# EAGLE library part MOD_CM4_SC0682 (library !GPLIB_ACTIVE)
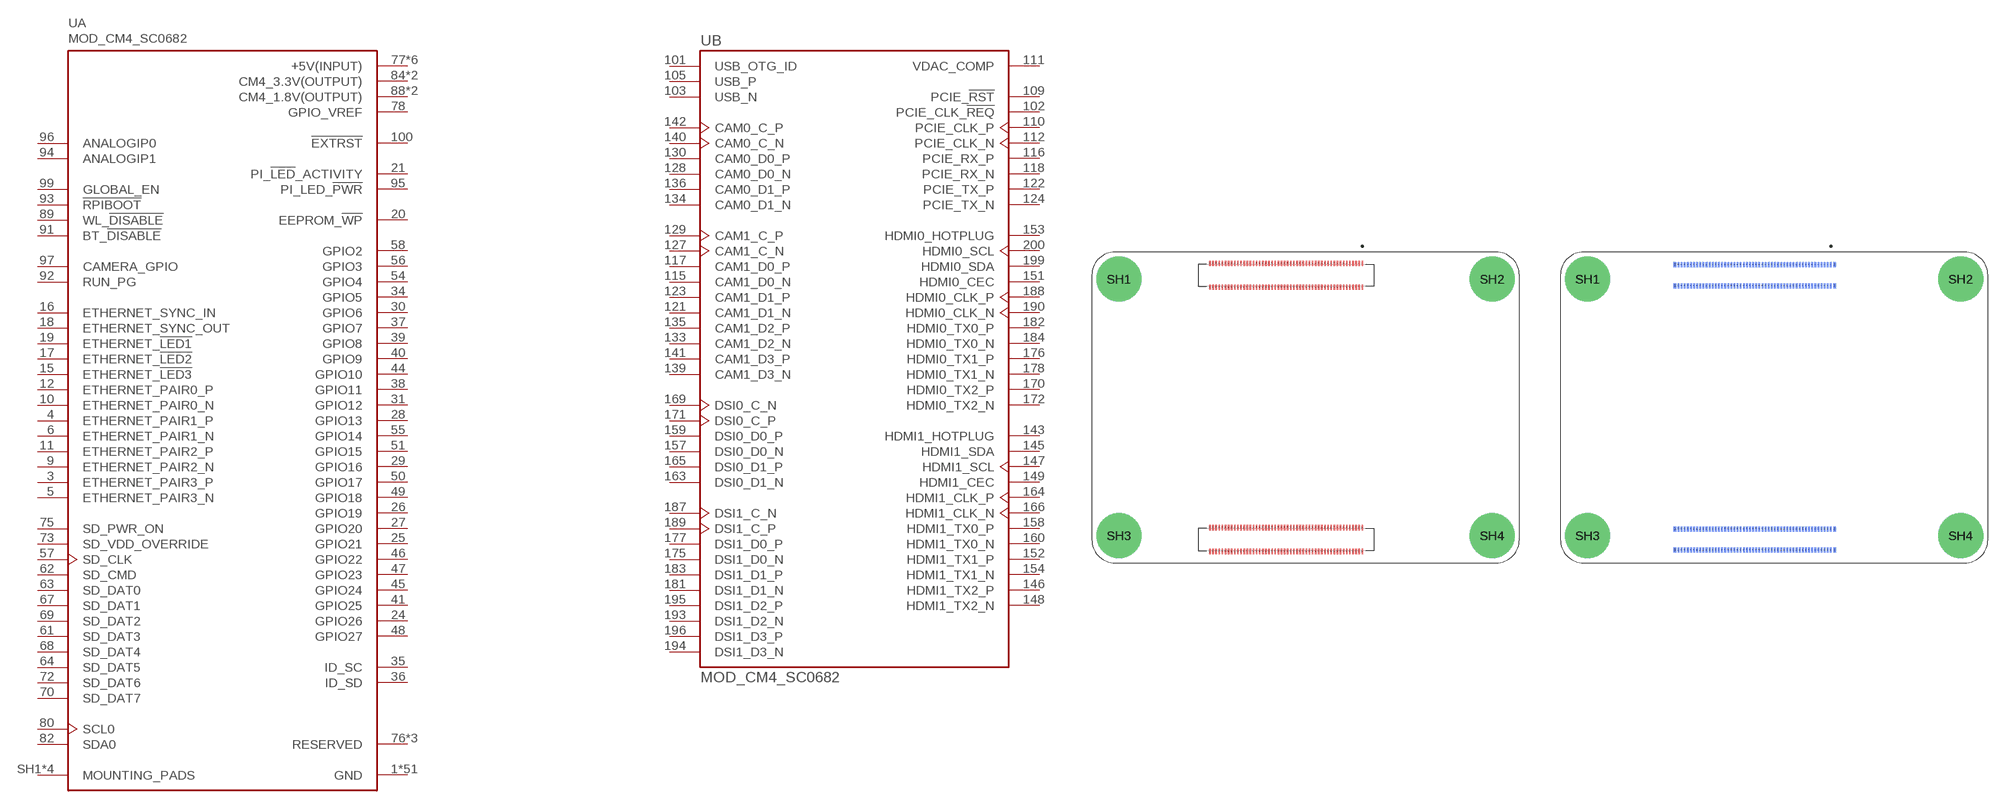
[diagram p47: symbol with the pads of MODULE_SC0682; footprints MODULE_SC0682, MODULE_CM4]

Designator prefix U; gates A=SC0682_CON1 B=SC0682_CON2

## MOD_CM4_SC0682  [MODULE_SC0682]
1  A:GND  pwr
2  A:GND  pwr
3  A:ETHERNET_PAIR3_P
4  A:ETHERNET_PAIR1_P
5  A:ETHERNET_PAIR3_N
6  A:ETHERNET_PAIR1_N
7  A:GND  pwr
8  A:GND  pwr
9  A:ETHERNET_PAIR2_N
10  A:ETHERNET_PAIR0_N
11  A:ETHERNET_PAIR2_P
12  A:ETHERNET_PAIR0_P
13  A:GND  pwr
14  A:GND  pwr
15  A:ETHERNET_!LED3  out
16  A:ETHERNET_SYNC_IN  in
17  A:ETHERNET_!LED2  out
18  A:ETHERNET_SYNC_OUT  out
19  A:ETHERNET_!LED1  out
20  A:EEPROM_!WP
21  A:PI_!LED!_ACTIVITY
22  A:GND  pwr
23  A:GND  pwr
24  A:GPIO26
25  A:GPIO21
26  A:GPIO19
27  A:GPIO20
28  A:GPIO13
29  A:GPIO16
30  A:GPIO6
31  A:GPIO12
32  A:GND  pwr
33  A:GND  pwr
34  A:GPIO5
35  A:ID_SC
36  A:ID_SD
37  A:GPIO7
38  A:GPIO11
39  A:GPIO8
40  A:GPIO9
41  A:GPIO25
42  A:GND  pwr
43  A:GND  pwr
44  A:GPIO10
45  A:GPIO24
46  A:GPIO22
47  A:GPIO23
48  A:GPIO27
49  A:GPIO18
50  A:GPIO17
51  A:GPIO15
52  A:GND  pwr
53  A:GND  pwr
54  A:GPIO4
55  A:GPIO14
56  A:GPIO3
57  A:SD_CLK
58  A:GPIO2
59  A:GND  pwr
60  A:GND  pwr
61  A:SD_DAT3
62  A:SD_CMD  in
63  A:SD_DAT0
64  A:SD_DAT5
65  A:GND  pwr
66  A:GND  pwr
67  A:SD_DAT1
68  A:SD_DAT4
69  A:SD_DAT2
70  A:SD_DAT7
71  A:GND  pwr
72  A:SD_DAT6
73  A:SD_VDD_OVERRIDE  in
74  A:GND  pwr
75  A:SD_PWR_ON  out
76  A:RESERVED  nc
77  A:+5V(INPUT)  pwr
78  A:GPIO_VREF  pwr
79  A:+5V(INPUT)  pwr
80  A:SCL0  in
81  A:+5V(INPUT)  pwr
82  A:SDA0
83  A:+5V(INPUT)  pwr
84  A:CM4_3.3V(OUTPUT)  pwr
85  A:+5V(INPUT)  pwr
86  A:CM4_3.3V(OUTPUT)  pwr
87  A:+5V(INPUT)  pwr
88  A:CM4_1.8V(OUTPUT)  pwr
89  A:WL_!DISABLE  in
90  A:CM4_1.8V(OUTPUT)  pwr
91  A:BT_!DISABLE  in
92  A:RUN_PG
93  A:!RPIBOOT  in
94  A:ANALOGIP1  in
95  A:PI_LED_!PWR  out
96  A:ANALOGIP0  in
97  A:CAMERA_GPIO
98  A:GND  pwr
99  A:GLOBAL_EN  in
100  A:!EXTRST  out
101  B:USB_OTG_ID  in
102  B:PCIE_CLK_!REQ  in
103  B:USB_N
104  A:RESERVED  nc
105  B:USB_P
106  A:RESERVED  nc
107  A:GND  pwr
108  A:GND  pwr
109  B:PCIE_!RST  out
110  B:PCIE_CLK_P  out
111  B:VDAC_COMP  out
112  B:PCIE_CLK_N  out
113  A:GND  pwr
114  A:GND  pwr
115  B:CAM1_D0_N  in
116  B:PCIE_RX_P  in
117  B:CAM1_D0_P  in
118  B:PCIE_RX_N  in
119  A:GND  pwr
120  A:GND  pwr
121  B:CAM1_D1_N  in
122  B:PCIE_TX_P  out
123  B:CAM1_D1_P  in
124  B:PCIE_TX_N  out
125  A:GND  pwr
126  A:GND  pwr
127  B:CAM1_C_N  in
128  B:CAM0_D0_N  in
129  B:CAM1_C_P  in
130  B:CAM0_D0_P  in
131  A:GND  pwr
132  A:GND  pwr
133  B:CAM1_D2_N  in
134  B:CAM0_D1_N  in
135  B:CAM1_D2_P  in
136  B:CAM0_D1_P  in
137  A:GND  pwr
138  A:GND  pwr
139  B:CAM1_D3_N  in
140  B:CAM0_C_N  in
141  B:CAM1_D3_P  in
142  B:CAM0_C_P  in
143  B:HDMI1_HOTPLUG  in
144  A:GND  pwr
145  B:HDMI1_SDA
146  B:HDMI1_TX2_P  out
147  B:HDMI1_SCL
148  B:HDMI1_TX2_N  out
149  B:HDMI1_CEC  in
150  A:GND  pwr
151  B:HDMI0_CEC  in
152  B:HDMI1_TX1_P  out
153  B:HDMI0_HOTPLUG  in
154  B:HDMI1_TX1_N  out
155  A:GND  pwr
156  A:GND  pwr
157  B:DSI0_D0_N  out
158  B:HDMI1_TX0_P  out
159  B:DSI0_D0_P  out
160  B:HDMI1_TX0_N  out
161  A:GND  pwr
162  A:GND  pwr
163  B:DSI0_D1_N  out
164  B:HDMI1_CLK_P  out
165  B:DSI0_D1_P  out
166  B:HDMI1_CLK_N  out
167  A:GND  pwr
168  A:GND  pwr
169  B:DSI0_C_N  out
170  B:HDMI0_TX2_P  out
171  B:DSI0_C_P  out
172  B:HDMI0_TX2_N  out
173  A:GND  pwr
174  A:GND  pwr
175  B:DSI1_D0_N  out
176  B:HDMI0_TX1_P  out
177  B:DSI1_D0_P  out
178  B:HDMI0_TX1_N  out
179  A:GND  pwr
180  A:GND  pwr
181  B:DSI1_D1_N  out
182  B:HDMI0_TX0_P  out
183  B:DSI1_D1_P  out
184  B:HDMI0_TX0_N  out
185  A:GND  pwr
186  A:GND  pwr
187  B:DSI1_C_N  out
188  B:HDMI0_CLK_P  out
189  B:DSI1_C_P  out
190  B:HDMI0_CLK_N  out
191  A:GND  pwr
192  A:GND  pwr
193  B:DSI1_D2_N  out
194  B:DSI1_D3_N  out
195  B:DSI1_D2_P  out
196  B:DSI1_D3_P  out
197  A:GND  pwr
198  A:GND  pwr
199  B:HDMI0_SDA
200  B:HDMI0_SCL
SH1  A:MOUNTING_PADS  pas
SH2  A:MOUNTING_PADS  pas
SH3  A:MOUNTING_PADS  pas
SH4  A:MOUNTING_PADS  pas

## MOD_CM4_SC0682_MODULE_SIDE  [MODULE_CM4]
Pads as for MODULE_SC0682

## Footprint MODULE_SC0682 (pad centres in mm)
smd 0.2 x 0.7: 1 7.3,18.54; 2 7.3,15.46; 3 6.9,18.54; 4 6.9,15.46; 5 6.5,18.54; 6 6.5,15.46; 7 6.1,18.54; 8 6.1,15.46; 9 5.7,18.54; 10 5.7,15.46; 11 5.3,18.54; 12 5.3,15.46; 13 4.9,18.54; 14 4.9,15.46; 15 4.5,18.54; 16 4.5,15.46; 17 4.1,18.54; 18 4.1,15.46; 19 3.7,18.54; 20 3.7,15.46; 21 3.3,18.54; 22 3.3,15.46; 23 2.9,18.54; 24 2.9,15.46; 25 2.5,18.54; 26 2.5,15.46; 27 2.1,18.54; 28 2.1,15.46; 29 1.7,18.54; 30 1.7,15.46; 31 1.3,18.54; 32 1.3,15.46; 33 0.9,18.54; 34 0.9,15.46; 35 0.5,18.54; 36 0.5,15.46; 37 0.1,18.54; 38 0.1,15.46; 39 -0.3,18.54; 40 -0.3,15.46; 41 -0.7,18.54; 42 -0.7,15.46; 43 -1.1,18.54; 44 -1.1,15.46; 45 -1.5,18.54; 46 -1.5,15.46; 47 -1.9,18.54; 48 -1.9,15.46; 49 -2.3,18.54; 50 -2.3,15.46; 51 -2.7,18.54; 52 -2.7,15.46; 53 -3.1,18.54; 54 -3.1,15.46; 55 -3.5,18.54; 56 -3.5,15.46; 57 -3.9,18.54; 58 -3.9,15.46; 59 -4.3,18.54; 60 -4.3,15.46; 61 -4.7,18.54; 62 -4.7,15.46; 63 -5.1,18.54; 64 -5.1,15.46; 65 -5.5,18.54; 66 -5.5,15.46; 67 -5.9,18.54; 68 -5.9,15.46; 69 -6.3,18.54; 70 -6.3,15.46; 71 -6.7,18.54; 72 -6.7,15.46; 73 -7.1,18.54; 74 -7.1,15.46; 75 -7.5,18.54; 76 -7.5,15.46; 77 -7.9,18.54; 78 -7.9,15.46; 79 -8.3,18.54; 80 -8.3,15.46; 81 -8.7,18.54; 82 -8.7,15.46; 83 -9.1,18.54; 84 -9.1,15.46; 85 -9.5,18.54; 86 -9.5,15.46; 87 -9.9,18.54; 88 -9.9,15.46; 89 -10.3,18.54; 90 -10.3,15.46; 91 -10.7,18.54; 92 -10.7,15.46; 93 -11.1,18.54; 94 -11.1,15.46; 95 -11.5,18.54; 96 -11.5,15.46; 97 -11.9,18.54; 98 -11.9,15.46; 99 -12.3,18.54; 100 -12.3,15.46; 101 7.3,-15.46; 102 7.3,-18.54; 103 6.9,-15.46; 104 6.9,-18.54; 105 6.5,-15.46; 106 6.5,-18.54; 107 6.1,-15.46; 108 6.1,-18.54; 109 5.7,-15.46; 110 5.7,-18.54; 111 5.3,-15.46; 112 5.3,-18.54; 113 4.9,-15.46; 114 4.9,-18.54; 115 4.5,-15.46; 116 4.5,-18.54; 117 4.1,-15.46; 118 4.1,-18.54; 119 3.7,-15.46; 120 3.7,-18.54; 121 3.3,-15.46; 122 3.3,-18.54; 123 2.9,-15.46; 124 2.9,-18.54; 125 2.5,-15.46; 126 2.5,-18.54; 127 2.1,-15.46; 128 2.1,-18.54; 129 1.7,-15.46; 130 1.7,-18.54; 131 1.3,-15.46; 132 1.3,-18.54; 133 0.9,-15.46; 134 0.9,-18.54; 135 0.5,-15.46; 136 0.5,-18.54; 137 0.1,-15.46; 138 0.1,-18.54; 139 -0.3,-15.46; 140 -0.3,-18.54; 141 -0.7,-15.46; 142 -0.7,-18.54; 143 -1.1,-15.46; 144 -1.1,-18.54; 145 -1.5,-15.46; 146 -1.5,-18.54; 147 -1.9,-15.46; 148 -1.9,-18.54; 149 -2.3,-15.46; 150 -2.3,-18.54; 151 -2.7,-15.46; 152 -2.7,-18.54; 153 -3.1,-15.46; 154 -3.1,-18.54; 155 -3.5,-15.46; 156 -3.5,-18.54; 157 -3.9,-15.46; 158 -3.9,-18.54; 159 -4.3,-15.46; 160 -4.3,-18.54; 161 -4.7,-15.46; 162 -4.7,-18.54; 163 -5.1,-15.46; 164 -5.1,-18.54; 165 -5.5,-15.46; 166 -5.5,-18.54; 167 -5.9,-15.46; 168 -5.9,-18.54; 169 -6.3,-15.46; 170 -6.3,-18.54; 171 -6.7,-15.46; 172 -6.7,-18.54; 173 -7.1,-15.46; 174 -7.1,-18.54; 175 -7.5,-15.46; 176 -7.5,-18.54; 177 -7.9,-15.46; 178 -7.9,-18.54; 179 -8.3,-15.46; 180 -8.3,-18.54; 181 -8.7,-15.46; 182 -8.7,-18.54; 183 -9.1,-15.46; 184 -9.1,-18.54; 185 -9.5,-15.46; 186 -9.5,-18.54; 187 -9.9,-15.46; 188 -9.9,-18.54; 189 -10.3,-15.46; 190 -10.3,-18.54; 191 -10.7,-15.46; 192 -10.7,-18.54; 193 -11.1,-15.46; 194 -11.1,-18.54; 195 -11.5,-15.46; 196 -11.5,-18.54; 197 -11.9,-15.46; 198 -11.9,-18.54; 199 -12.3,-15.46; 200 -12.3,-18.54
drill 2.7 pad 5.8: SH1 -24,16.5; SH2 24,16.5; SH3 -24,-16.5; SH4 24,-16.5

## Footprint MODULE_CM4 (pad centres in mm)
smd 0.23 x 0.66 bottom: 1 7.3,18.355; 2 7.3,15.645; 3 6.9,18.355; 4 6.9,15.645; 5 6.5,18.355; 6 6.5,15.645; 7 6.1,18.355; 8 6.1,15.645; 9 5.7,18.355; 10 5.7,15.645; 11 5.3,18.355; 12 5.3,15.645; 13 4.9,18.355; 14 4.9,15.645; 15 4.5,18.355; 16 4.5,15.645; 17 4.1,18.355; 18 4.1,15.645; 19 3.7,18.355; 20 3.7,15.645; 21 3.3,18.355; 22 3.3,15.645; 23 2.9,18.355; 24 2.9,15.645; 25 2.5,18.355; 26 2.5,15.645; 27 2.1,18.355; 28 2.1,15.645; 29 1.7,18.355; 30 1.7,15.645; 31 1.3,18.355; 32 1.3,15.645; 33 0.9,18.355; 34 0.9,15.645; 35 0.5,18.355; 36 0.5,15.645; 37 0.1,18.355; 38 0.1,15.645; 39 -0.3,18.355; 40 -0.3,15.645; 41 -0.7,18.355; 42 -0.7,15.645; 43 -1.1,18.355; 44 -1.1,15.645; 45 -1.5,18.355; 46 -1.5,15.645; 47 -1.9,18.355; 48 -1.9,15.645; 49 -2.3,18.355; 50 -2.3,15.645; 51 -2.7,18.355; 52 -2.7,15.645; 53 -3.1,18.355; 54 -3.1,15.645; 55 -3.5,18.355; 56 -3.5,15.645; 57 -3.9,18.355; 58 -3.9,15.645; 59 -4.3,18.355; 60 -4.3,15.645; 61 -4.7,18.355; 62 -4.7,15.645; 63 -5.1,18.355; 64 -5.1,15.645; 65 -5.5,18.355; 66 -5.5,15.645; 67 -5.9,18.355; 68 -5.9,15.645; 69 -6.3,18.355; 70 -6.3,15.645; 71 -6.7,18.355; 72 -6.7,15.645; 73 -7.1,18.355; 74 -7.1,15.645; 75 -7.5,18.355; 76 -7.5,15.645; 77 -7.9,18.355; 78 -7.9,15.645; 79 -8.3,18.355; 80 -8.3,15.645; 81 -8.7,18.355; 82 -8.7,15.645; 83 -9.1,18.355; 84 -9.1,15.645; 85 -9.5,18.355; 86 -9.5,15.645; 87 -9.9,18.355; 88 -9.9,15.645; 89 -10.3,18.355; 90 -10.3,15.645; 91 -10.7,18.355; 92 -10.7,15.645; 93 -11.1,18.355; 94 -11.1,15.645; 95 -11.5,18.355; 96 -11.5,15.645; 97 -11.9,18.355; 98 -11.9,15.645; 99 -12.3,18.355; 100 -12.3,15.645; 101 7.3,-15.645; 102 7.3,-18.355; 103 6.9,-15.645; 104 6.9,-18.355; 105 6.5,-15.645; 106 6.5,-18.355; 107 6.1,-15.645; 108 6.1,-18.355; 109 5.7,-15.645; 110 5.7,-18.355; 111 5.3,-15.645; 112 5.3,-18.355; 113 4.9,-15.645; 114 4.9,-18.355; 115 4.5,-15.645; 116 4.5,-18.355; 117 4.1,-15.645; 118 4.1,-18.355; 119 3.7,-15.645; 120 3.7,-18.355; 121 3.3,-15.645; 122 3.3,-18.355; 123 2.9,-15.645; 124 2.9,-18.355; 125 2.5,-15.645; 126 2.5,-18.355; 127 2.1,-15.645; 128 2.1,-18.355; 129 1.7,-15.645; 130 1.7,-18.355; 131 1.3,-15.645; 132 1.3,-18.355; 133 0.9,-15.645; 134 0.9,-18.355; 135 0.5,-15.645; 136 0.5,-18.355; 137 0.1,-15.645; 138 0.1,-18.355; 139 -0.3,-15.645; 140 -0.3,-18.355; 141 -0.7,-15.645; 142 -0.7,-18.355; 143 -1.1,-15.645; 144 -1.1,-18.355; 145 -1.5,-15.645; 146 -1.5,-18.355; 147 -1.9,-15.645; 148 -1.9,-18.355; 149 -2.3,-15.645; 150 -2.3,-18.355; 151 -2.7,-15.645; 152 -2.7,-18.355; 153 -3.1,-15.645; 154 -3.1,-18.355; 155 -3.5,-15.645; 156 -3.5,-18.355; 157 -3.9,-15.645; 158 -3.9,-18.355; 159 -4.3,-15.645; 160 -4.3,-18.355; 161 -4.7,-15.645; 162 -4.7,-18.355; 163 -5.1,-15.645; 164 -5.1,-18.355; 165 -5.5,-15.645; 166 -5.5,-18.355; 167 -5.9,-15.645; 168 -5.9,-18.355; 169 -6.3,-15.645; 170 -6.3,-18.355; 171 -6.7,-15.645; 172 -6.7,-18.355; 173 -7.1,-15.645; 174 -7.1,-18.355; 175 -7.5,-15.645; 176 -7.5,-18.355; 177 -7.9,-15.645; 178 -7.9,-18.355; 179 -8.3,-15.645; 180 -8.3,-18.355; 181 -8.7,-15.645; 182 -8.7,-18.355; 183 -9.1,-15.645; 184 -9.1,-18.355; 185 -9.5,-15.645; 186 -9.5,-18.355; 187 -9.9,-15.645; 188 -9.9,-18.355; 189 -10.3,-15.645; 190 -10.3,-18.355; 191 -10.7,-15.645; 192 -10.7,-18.355; 193 -11.1,-15.645; 194 -11.1,-18.355; 195 -11.5,-15.645; 196 -11.5,-18.355; 197 -11.9,-15.645; 198 -11.9,-18.355; 199 -12.3,-15.645; 200 -12.3,-18.355
smd 0.35 x 0.66 bottom: S1 7.775,18.355; S2 7.775,15.645; S3 -12.775,18.355; S4 -12.775,15.645; S5 7.775,-15.645; S6 7.775,-18.355; S7 -12.775,-15.645; S8 -12.775,-18.355
drill 2.7 pad 5.8: SH1 -24,16.5; SH2 24,16.5; SH3 -24,-16.5; SH4 24,-16.5